# Altium schematic symbol library SCH - MCU - SI LABS - SI LABS EFM32GG11B820F2048GL192 192-PIN BGA 7X7.SchLib: 1 symbol
Pins are listed as number, name and electrical type; pins without a type are passive.

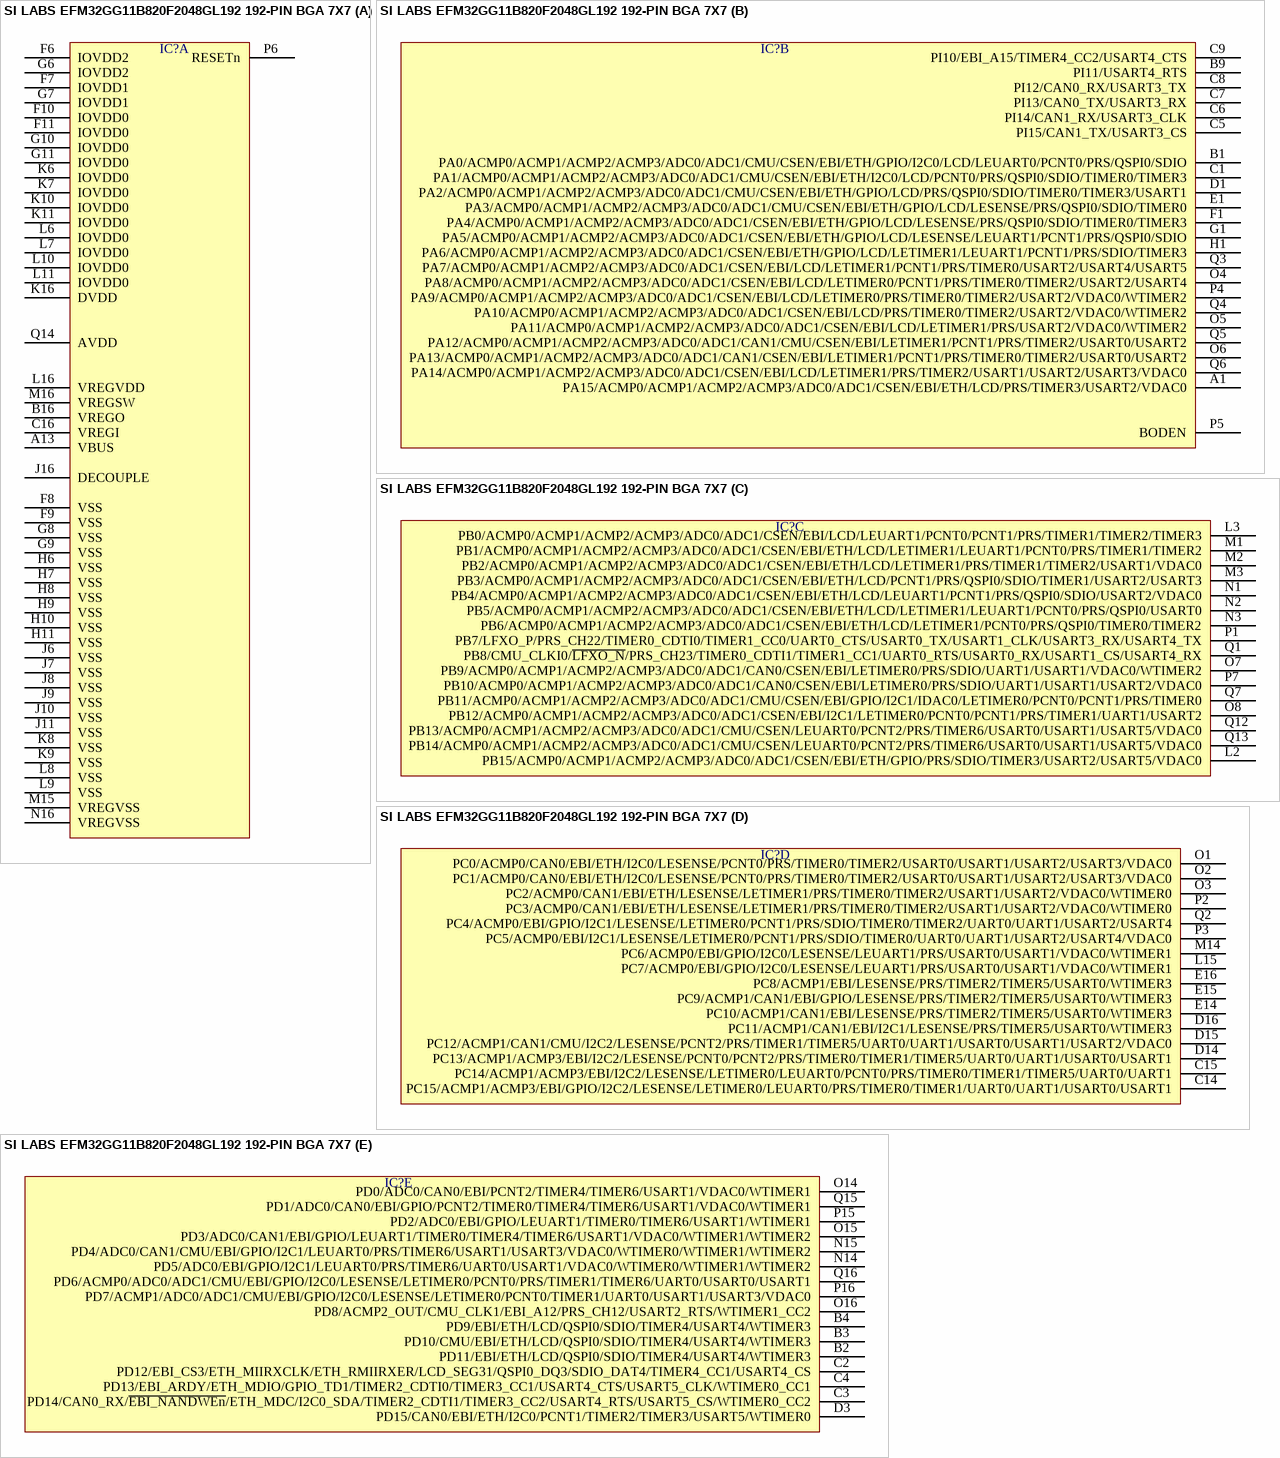
[diagram p0: symbol SI LABS EFM32GG11B820F2048GL192 192-PIN BGA 7X7]

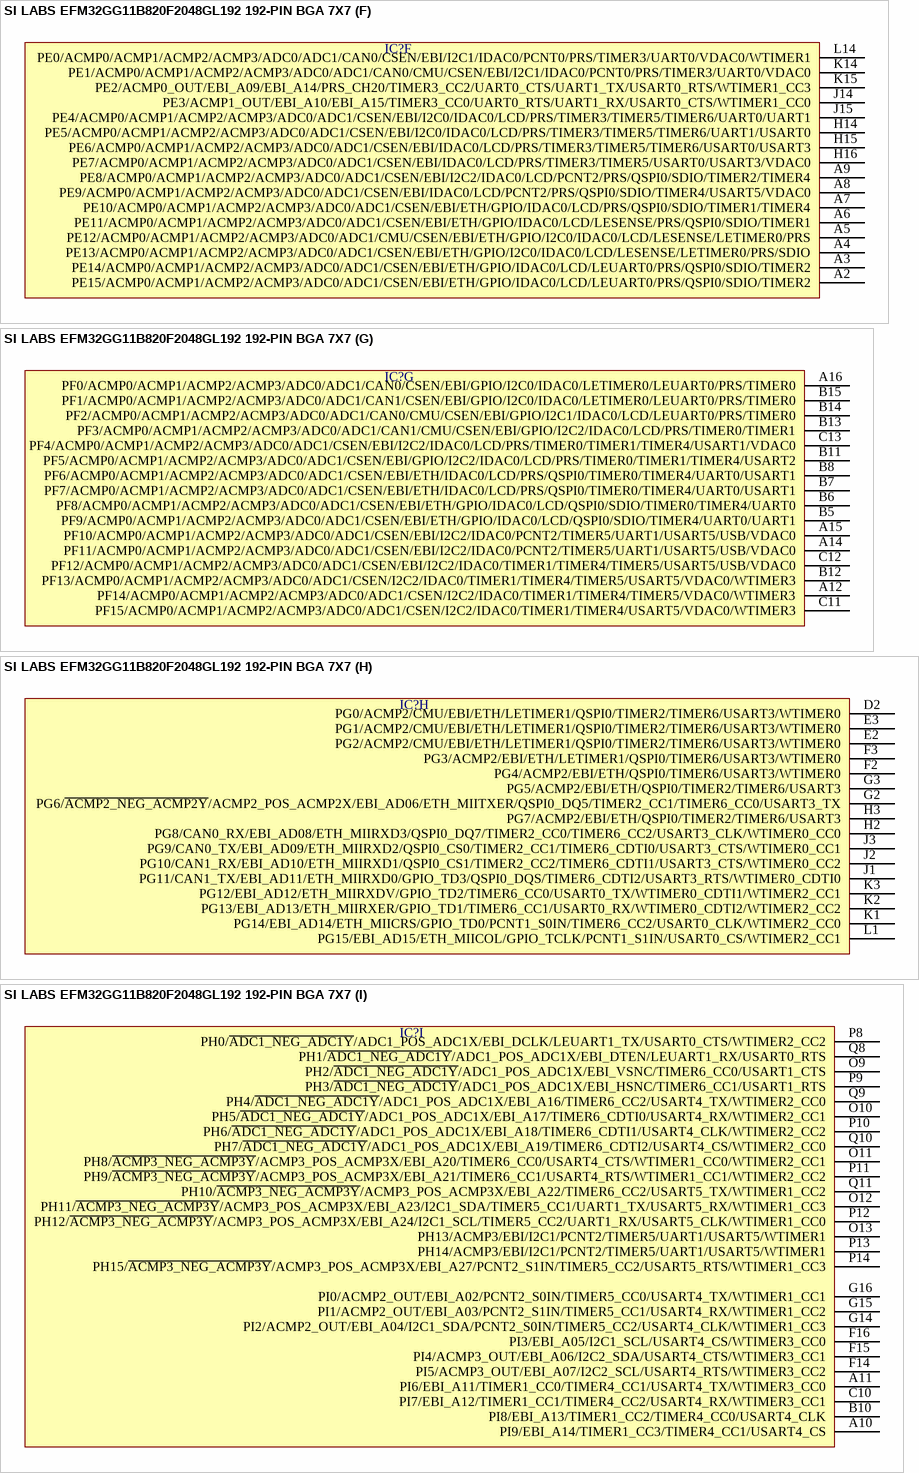
[diagram p1: symbol SI LABS EFM32GG11B820F2048GL192 192-PIN BGA 7X7]

## SI LABS EFM32GG11B820F2048GL192 192-PIN BGA 7X7
designator IC?  (value not drawn)
part A pins: A13 VBUS, B16 VREGO, C16 VREGI, F6 IOVDD2, F7 IOVDD1, F8 VSS, F9 VSS, F10 IOVDD0, F11 IOVDD0, G6 IOVDD2, G7 IOVDD1, G8 VSS, G9 VSS, G10 IOVDD0, G11 IOVDD0, H6 VSS, H7 VSS, H8 VSS, H9 VSS, H10 VSS, H11 VSS, J6 VSS, J7 VSS, J8 VSS, J9 VSS, J10 VSS, J11 VSS, J16 DECOUPLE, K6 IOVDD0, K7 IOVDD0, K8 VSS, K9 VSS, K10 IOVDD0, K11 IOVDD0, K16 DVDD, L6 IOVDD0, L7 IOVDD0, L8 VSS, L9 VSS, L10 IOVDD0, L11 IOVDD0, L16 VREGVDD, M15 VREGVSS, M16 VREGSW, N16 VREGVSS, P6 RESETn, Q14 AVDD
part B pins: A1 PA15/ACMP0/ACMP1/ACMP2/ACMP3/ADC0/ADC1/CSEN/EBI/ETH/LCD/PRS/TIMER3/USART2/VDAC0, B1 PA0/ACMP0/ACMP1/ACMP2/ACMP3/ADC0/ADC1/CMU/CSEN/EBI/ETH/GPIO/I2C0/LCD/LEUART0/PCNT0/PRS/QSPI0/SDIO, B9 PI11/USART4_RTS, C1 PA1/ACMP0/ACMP1/ACMP2/ACMP3/ADC0/ADC1/CMU/CSEN/EBI/ETH/I2C0/LCD/PCNT0/PRS/QSPI0/SDIO/TIMER0/TIMER3, C5 PI15/CAN1_TX/USART3_CS, C6 PI14/CAN1_RX/USART3_CLK, C7 PI13/CAN0_TX/USART3_RX, C8 PI12/CAN0_RX/USART3_TX, C9 PI10/EBI_A15/TIMER4_CC2/USART4_CTS, D1 PA2/ACMP0/ACMP1/ACMP2/ACMP3/ADC0/ADC1/CMU/CSEN/EBI/ETH/GPIO/LCD/PRS/QSPI0/SDIO/TIMER0/TIMER3/USART1, E1 PA3/ACMP0/ACMP1/ACMP2/ACMP3/ADC0/ADC1/CMU/CSEN/EBI/ETH/GPIO/LCD/LESENSE/PRS/QSPI0/SDIO/TIMER0, F1 PA4/ACMP0/ACMP1/ACMP2/ACMP3/ADC0/ADC1/CSEN/EBI/ETH/GPIO/LCD/LESENSE/PRS/QSPI0/SDIO/TIMER0/TIMER3, G1 PA5/ACMP0/ACMP1/ACMP2/ACMP3/ADC0/ADC1/CSEN/EBI/ETH/GPIO/LCD/LESENSE/LEUART1/PCNT1/PRS/QSPI0/SDIO, H1 PA6/ACMP0/ACMP1/ACMP2/ACMP3/ADC0/ADC1/CSEN/EBI/ETH/GPIO/LCD/LETIMER1/LEUART1/PCNT1/PRS/SDIO/TIMER3, O4 PA8/ACMP0/ACMP1/ACMP2/ACMP3/ADC0/ADC1/CSEN/EBI/LCD/LETIMER0/PCNT1/PRS/TIMER0/TIMER2/USART2/USART4, O5 PA11/ACMP0/ACMP1/ACMP2/ACMP3/ADC0/ADC1/CSEN/EBI/LCD/LETIMER1/PRS/USART2/VDAC0/WTIMER2, O6 PA13/ACMP0/ACMP1/ACMP2/ACMP3/ADC0/ADC1/CAN1/CSEN/EBI/LETIMER1/PCNT1/PRS/TIMER0/TIMER2/USART0/USART2, P4 PA9/ACMP0/ACMP1/ACMP2/ACMP3/ADC0/ADC1/CSEN/EBI/LCD/LETIMER0/PRS/TIMER0/TIMER2/USART2/VDAC0/WTIMER2, P5 BODEN, Q3 PA7/ACMP0/ACMP1/ACMP2/ACMP3/ADC0/ADC1/CSEN/EBI/LCD/LETIMER1/PCNT1/PRS/TIMER0/USART2/USART4/USART5, Q4 PA10/ACMP0/ACMP1/ACMP2/ACMP3/ADC0/ADC1/CSEN/EBI/LCD/PRS/TIMER0/TIMER2/USART2/VDAC0/WTIMER2, Q5 PA12/ACMP0/ACMP1/ACMP2/ACMP3/ADC0/ADC1/CAN1/CMU/CSEN/EBI/LETIMER1/PCNT1/PRS/TIMER2/USART0/USART2, Q6 PA14/ACMP0/ACMP1/ACMP2/ACMP3/ADC0/ADC1/CSEN/EBI/LCD/LETIMER1/PRS/TIMER2/USART1/USART2/USART3/VDAC0
part C pins: L2 PB15/ACMP0/ACMP1/ACMP2/ACMP3/ADC0/ADC1/CSEN/EBI/ETH/GPIO/PRS/SDIO/TIMER3/USART2/USART5/VDAC0, L3 PB0/ACMP0/ACMP1/ACMP2/ACMP3/ADC0/ADC1/CSEN/EBI/LCD/LEUART1/PCNT0/PCNT1/PRS/TIMER1/TIMER2/TIMER3, M1 PB1/ACMP0/ACMP1/ACMP2/ACMP3/ADC0/ADC1/CSEN/EBI/ETH/LCD/LETIMER1/LEUART1/PCNT0/PRS/TIMER1/TIMER2, M2 PB2/ACMP0/ACMP1/ACMP2/ACMP3/ADC0/ADC1/CSEN/EBI/ETH/LCD/LETIMER1/PRS/TIMER1/TIMER2/USART1/VDAC0, M3 PB3/ACMP0/ACMP1/ACMP2/ACMP3/ADC0/ADC1/CSEN/EBI/ETH/LCD/PCNT1/PRS/QSPI0/SDIO/TIMER1/USART2/USART3, N1 PB4/ACMP0/ACMP1/ACMP2/ACMP3/ADC0/ADC1/CSEN/EBI/ETH/LCD/LEUART1/PCNT1/PRS/QSPI0/SDIO/USART2/VDAC0, N2 PB5/ACMP0/ACMP1/ACMP2/ACMP3/ADC0/ADC1/CSEN/EBI/ETH/LCD/LETIMER1/LEUART1/PCNT0/PRS/QSPI0/USART0, N3 PB6/ACMP0/ACMP1/ACMP2/ACMP3/ADC0/ADC1/CSEN/EBI/ETH/LCD/LETIMER1/PCNT0/PRS/QSPI0/TIMER0/TIMER2, O7 PB9/ACMP0/ACMP1/ACMP2/ACMP3/ADC0/ADC1/CAN0/CSEN/EBI/LETIMER0/PRS/SDIO/UART1/USART1/VDAC0/WTIMER2, O8 PB12/ACMP0/ACMP1/ACMP2/ACMP3/ADC0/ADC1/CSEN/EBI/I2C1/LETIMER0/PCNT0/PCNT1/PRS/TIMER1/UART1/USART2, P1 PB7/LFXO_P/PRS_CH22/TIMER0_CDTI0/TIMER1_CC0/UART0_CTS/USART0_TX/USART1_CLK/USART3_RX/USART4_TX, P7 PB10/ACMP0/ACMP1/ACMP2/ACMP3/ADC0/ADC1/CAN0/CSEN/EBI/LETIMER0/PRS/SDIO/UART1/USART1/USART2/VDAC0, Q1 PB8/CMU_CLKI0/~{LFXO_N}/PRS_CH23/TIMER0_CDTI1/TIMER1_CC1/UART0_RTS/USART0_RX/USART1_CS/USART4_RX, Q7 PB11/ACMP0/ACMP1/ACMP2/ACMP3/ADC0/ADC1/CMU/CSEN/EBI/GPIO/I2C1/IDAC0/LETIMER0/PCNT0/PCNT1/PRS/TIMER0, Q12 PB13/ACMP0/ACMP1/ACMP2/ACMP3/ADC0/ADC1/CMU/CSEN/LEUART0/PCNT2/PRS/TIMER6/USART0/USART1/USART5/VDAC0, Q13 PB14/ACMP0/ACMP1/ACMP2/ACMP3/ADC0/ADC1/CMU/CSEN/LEUART0/PCNT2/PRS/TIMER6/USART0/USART1/USART5/VDAC0
part D pins: C14 PC15/ACMP1/ACMP3/EBI/GPIO/I2C2/LESENSE/LETIMER0/LEUART0/PRS/TIMER0/TIMER1/UART0/UART1/USART0/USART1, C15 PC14/ACMP1/ACMP3/EBI/I2C2/LESENSE/LETIMER0/LEUART0/PCNT0/PRS/TIMER0/TIMER1/TIMER5/UART0/UART1, D14 PC13/ACMP1/ACMP3/EBI/I2C2/LESENSE/PCNT0/PCNT2/PRS/TIMER0/TIMER1/TIMER5/UART0/UART1/USART0/USART1, D15 PC12/ACMP1/CAN1/CMU/I2C2/LESENSE/PCNT2/PRS/TIMER1/TIMER5/UART0/UART1/USART0/USART1/USART2/VDAC0, D16 PC11/ACMP1/CAN1/EBI/I2C1/LESENSE/PRS/TIMER5/USART0/WTIMER3, E14 PC10/ACMP1/CAN1/EBI/LESENSE/PRS/TIMER2/TIMER5/USART0/WTIMER3, E15 PC9/ACMP1/CAN1/EBI/GPIO/LESENSE/PRS/TIMER2/TIMER5/USART0/WTIMER3, E16 PC8/ACMP1/EBI/LESENSE/PRS/TIMER2/TIMER5/USART0/WTIMER3, L15 PC7/ACMP0/EBI/GPIO/I2C0/LESENSE/LEUART1/PRS/USART0/USART1/VDAC0/WTIMER1, M14 PC6/ACMP0/EBI/GPIO/I2C0/LESENSE/LEUART1/PRS/USART0/USART1/VDAC0/WTIMER1, O1 PC0/ACMP0/CAN0/EBI/ETH/I2C0/LESENSE/PCNT0/PRS/TIMER0/TIMER2/USART0/USART1/USART2/USART3/VDAC0, O2 PC1/ACMP0/CAN0/EBI/ETH/I2C0/LESENSE/PCNT0/PRS/TIMER0/TIMER2/USART0/USART1/USART2/USART3/VDAC0, O3 PC2/ACMP0/CAN1/EBI/ETH/LESENSE/LETIMER1/PRS/TIMER0/TIMER2/USART1/USART2/VDAC0/WTIMER0, P2 PC3/ACMP0/CAN1/EBI/ETH/LESENSE/LETIMER1/PRS/TIMER0/TIMER2/USART1/USART2/VDAC0/WTIMER0, P3 PC5/ACMP0/EBI/I2C1/LESENSE/LETIMER0/PCNT1/PRS/SDIO/TIMER0/UART0/UART1/USART2/USART4/VDAC0, Q2 PC4/ACMP0/EBI/GPIO/I2C1/LESENSE/LETIMER0/PCNT1/PRS/SDIO/TIMER0/TIMER2/UART0/UART1/USART2/USART4
part E pins: B2 PD11/EBI/ETH/LCD/QSPI0/SDIO/TIMER4/USART4/WTIMER3, B3 PD10/CMU/EBI/ETH/LCD/QSPI0/SDIO/TIMER4/USART4/WTIMER3, B4 PD9/EBI/ETH/LCD/QSPI0/SDIO/TIMER4/USART4/WTIMER3, C2 PD12/EBI_CS3/ETH_MIIRXCLK/ETH_RMIIRXER/LCD_SEG31/QSPI0_DQ3/SDIO_DAT4/TIMER4_CC1/USART4_CS, C3 PD14/CAN0_RX/~{EBI_NANDWEn}/ETH_MDC/I2C0_SDA/TIMER2_CDTI1/TIMER3_CC2/USART4_RTS/USART5_CS/WTIMER0_CC2, C4 PD13/EBI_ARDY/ETH_MDIO/GPIO_TD1/TIMER2_CDTI0/TIMER3_CC1/USART4_CTS/USART5_CLK/WTIMER0_CC1, D3 PD15/CAN0/EBI/ETH/I2C0/PCNT1/TIMER2/TIMER3/USART5/WTIMER0, N14 PD5/ADC0/EBI/GPIO/I2C1/LEUART0/PRS/TIMER6/UART0/USART1/VDAC0/WTIMER0/WTIMER1/WTIMER2, N15 PD4/ADC0/CAN1/CMU/EBI/GPIO/I2C1/LEUART0/PRS/TIMER6/USART1/USART3/VDAC0/WTIMER0/WTIMER1/WTIMER2, O14 PD0/ADC0/CAN0/EBI/PCNT2/TIMER4/TIMER6/USART1/VDAC0/WTIMER1, O15 PD3/ADC0/CAN1/EBI/GPIO/LEUART1/TIMER0/TIMER4/TIMER6/USART1/VDAC0/WTIMER1/WTIMER2, O16 PD8/ACMP2_OUT/CMU_CLK1/EBI_A12/PRS_CH12/USART2_RTS/WTIMER1_CC2, P15 PD2/ADC0/EBI/GPIO/LEUART1/TIMER0/TIMER6/USART1/WTIMER1, P16 PD7/ACMP1/ADC0/ADC1/CMU/EBI/GPIO/I2C0/LESENSE/LETIMER0/PCNT0/TIMER1/UART0/USART1/USART3/VDAC0, Q15 PD1/ADC0/CAN0/EBI/GPIO/PCNT2/TIMER0/TIMER4/TIMER6/USART1/VDAC0/WTIMER1, Q16 PD6/ACMP0/ADC0/ADC1/CMU/EBI/GPIO/I2C0/LESENSE/LETIMER0/PCNT0/PRS/TIMER1/TIMER6/UART0/USART0/USART1
part F pins: A2 PE15/ACMP0/ACMP1/ACMP2/ACMP3/ADC0/ADC1/CSEN/EBI/ETH/GPIO/IDAC0/LCD/LEUART0/PRS/QSPI0/SDIO/TIMER2, A3 PE14/ACMP0/ACMP1/ACMP2/ACMP3/ADC0/ADC1/CSEN/EBI/ETH/GPIO/IDAC0/LCD/LEUART0/PRS/QSPI0/SDIO/TIMER2, A4 PE13/ACMP0/ACMP1/ACMP2/ACMP3/ADC0/ADC1/CSEN/EBI/ETH/GPIO/I2C0/IDAC0/LCD/LESENSE/LETIMER0/PRS/SDIO, A5 PE12/ACMP0/ACMP1/ACMP2/ACMP3/ADC0/ADC1/CMU/CSEN/EBI/ETH/GPIO/I2C0/IDAC0/LCD/LESENSE/LETIMER0/PRS, A6 PE11/ACMP0/ACMP1/ACMP2/ACMP3/ADC0/ADC1/CSEN/EBI/ETH/GPIO/IDAC0/LCD/LESENSE/PRS/QSPI0/SDIO/TIMER1, A7 PE10/ACMP0/ACMP1/ACMP2/ACMP3/ADC0/ADC1/CSEN/EBI/ETH/GPIO/IDAC0/LCD/PRS/QSPI0/SDIO/TIMER1/TIMER4, A8 PE9/ACMP0/ACMP1/ACMP2/ACMP3/ADC0/ADC1/CSEN/EBI/IDAC0/LCD/PCNT2/PRS/QSPI0/SDIO/TIMER4/USART5/VDAC0, A9 PE8/ACMP0/ACMP1/ACMP2/ACMP3/ADC0/ADC1/CSEN/EBI/I2C2/IDAC0/LCD/PCNT2/PRS/QSPI0/SDIO/TIMER2/TIMER4, H14 PE5/ACMP0/ACMP1/ACMP2/ACMP3/ADC0/ADC1/CSEN/EBI/I2C0/IDAC0/LCD/PRS/TIMER3/TIMER5/TIMER6/UART1/USART0, H15 PE6/ACMP0/ACMP1/ACMP2/ACMP3/ADC0/ADC1/CSEN/EBI/IDAC0/LCD/PRS/TIMER3/TIMER5/TIMER6/USART0/USART3, H16 PE7/ACMP0/ACMP1/ACMP2/ACMP3/ADC0/ADC1/CSEN/EBI/IDAC0/LCD/PRS/TIMER3/TIMER5/USART0/USART3/VDAC0, J14 PE3/ACMP1_OUT/EBI_A10/EBI_A15/TIMER3_CC0/UART0_RTS/UART1_RX/USART0_CTS/WTIMER1_CC0, J15 PE4/ACMP0/ACMP1/ACMP2/ACMP3/ADC0/ADC1/CSEN/EBI/I2C0/IDAC0/LCD/PRS/TIMER3/TIMER5/TIMER6/UART0/UART1, K14 PE1/ACMP0/ACMP1/ACMP2/ACMP3/ADC0/ADC1/CAN0/CMU/CSEN/EBI/I2C1/IDAC0/PCNT0/PRS/TIMER3/UART0/VDAC0, K15 PE2/ACMP0_OUT/EBI_A09/EBI_A14/PRS_CH20/TIMER3_CC2/UART0_CTS/UART1_TX/USART0_RTS/WTIMER1_CC3, L14 PE0/ACMP0/ACMP1/ACMP2/ACMP3/ADC0/ADC1/CAN0/CSEN/EBI/I2C1/IDAC0/PCNT0/PRS/TIMER3/UART0/VDAC0/WTIMER1
part G pins: A12 PF14/ACMP0/ACMP1/ACMP2/ACMP3/ADC0/ADC1/CSEN/I2C2/IDAC0/TIMER1/TIMER4/TIMER5/VDAC0/WTIMER3, A14 PF11/ACMP0/ACMP1/ACMP2/ACMP3/ADC0/ADC1/CSEN/EBI/I2C2/IDAC0/PCNT2/TIMER5/UART1/USART5/USB/VDAC0, A15 PF10/ACMP0/ACMP1/ACMP2/ACMP3/ADC0/ADC1/CSEN/EBI/I2C2/IDAC0/PCNT2/TIMER5/UART1/USART5/USB/VDAC0, A16 PF0/ACMP0/ACMP1/ACMP2/ACMP3/ADC0/ADC1/CAN0/CSEN/EBI/GPIO/I2C0/IDAC0/LETIMER0/LEUART0/PRS/TIMER0, B5 PF9/ACMP0/ACMP1/ACMP2/ACMP3/ADC0/ADC1/CSEN/EBI/ETH/GPIO/IDAC0/LCD/QSPI0/SDIO/TIMER4/UART0/UART1, B6 PF8/ACMP0/ACMP1/ACMP2/ACMP3/ADC0/ADC1/CSEN/EBI/ETH/GPIO/IDAC0/LCD/QSPI0/SDIO/TIMER0/TIMER4/UART0, B7 PF7/ACMP0/ACMP1/ACMP2/ACMP3/ADC0/ADC1/CSEN/EBI/ETH/IDAC0/LCD/PRS/QSPI0/TIMER0/TIMER4/UART0/USART1, B8 PF6/ACMP0/ACMP1/ACMP2/ACMP3/ADC0/ADC1/CSEN/EBI/ETH/IDAC0/LCD/PRS/QSPI0/TIMER0/TIMER4/UART0/USART1, B11 PF5/ACMP0/ACMP1/ACMP2/ACMP3/ADC0/ADC1/CSEN/EBI/GPIO/I2C2/IDAC0/LCD/PRS/TIMER0/TIMER1/TIMER4/USART2, B12 PF13/ACMP0/ACMP1/ACMP2/ACMP3/ADC0/ADC1/CSEN/I2C2/IDAC0/TIMER1/TIMER4/TIMER5/USART5/VDAC0/WTIMER3, B13 PF3/ACMP0/ACMP1/ACMP2/ACMP3/ADC0/ADC1/CAN1/CMU/CSEN/EBI/GPIO/I2C2/IDAC0/LCD/PRS/TIMER0/TIMER1, B14 PF2/ACMP0/ACMP1/ACMP2/ACMP3/ADC0/ADC1/CAN0/CMU/CSEN/EBI/GPIO/I2C1/IDAC0/LCD/LEUART0/PRS/TIMER0, B15 PF1/ACMP0/ACMP1/ACMP2/ACMP3/ADC0/ADC1/CAN1/CSEN/EBI/GPIO/I2C0/IDAC0/LETIMER0/LEUART0/PRS/TIMER0, C11 PF15/ACMP0/ACMP1/ACMP2/ACMP3/ADC0/ADC1/CSEN/I2C2/IDAC0/TIMER1/TIMER4/USART5/VDAC0/WTIMER3, C12 PF12/ACMP0/ACMP1/ACMP2/ACMP3/ADC0/ADC1/CSEN/EBI/I2C2/IDAC0/TIMER1/TIMER4/TIMER5/USART5/USB/VDAC0, C13 PF4/ACMP0/ACMP1/ACMP2/ACMP3/ADC0/ADC1/CSEN/EBI/I2C2/IDAC0/LCD/PRS/TIMER0/TIMER1/TIMER4/USART1/VDAC0
part H pins: D2 PG0/ACMP2/CMU/EBI/ETH/LETIMER1/QSPI0/TIMER2/TIMER6/USART3/WTIMER0, E2 PG2/ACMP2/CMU/EBI/ETH/LETIMER1/QSPI0/TIMER2/TIMER6/USART3/WTIMER0, E3 PG1/ACMP2/CMU/EBI/ETH/LETIMER1/QSPI0/TIMER2/TIMER6/USART3/WTIMER0, F2 PG4/ACMP2/EBI/ETH/QSPI0/TIMER6/USART3/WTIMER0, F3 PG3/ACMP2/EBI/ETH/LETIMER1/QSPI0/TIMER6/USART3/WTIMER0, G2 PG6/~{ACMP2_NEG_ACMP2Y}/ACMP2_POS_ACMP2X/EBI_AD06/ETH_MIITXER/QSPI0_DQ5/TIMER2_CC1/TIMER6_CC0/USART3_TX, G3 PG5/ACMP2/EBI/ETH/QSPI0/TIMER2/TIMER6/USART3, H2 PG8/CAN0_RX/EBI_AD08/ETH_MIIRXD3/QSPI0_DQ7/TIMER2_CC0/TIMER6_CC2/USART3_CLK/WTIMER0_CC0, H3 PG7/ACMP2/EBI/ETH/QSPI0/TIMER2/TIMER6/USART3, J1 PG11/CAN1_TX/EBI_AD11/ETH_MIIRXD0/GPIO_TD3/QSPI0_DQS/TIMER6_CDTI2/USART3_RTS/WTIMER0_CDTI0, J2 PG10/CAN1_RX/EBI_AD10/ETH_MIIRXD1/QSPI0_CS1/TIMER2_CC2/TIMER6_CDTI1/USART3_CTS/WTIMER0_CC2, J3 PG9/CAN0_TX/EBI_AD09/ETH_MIIRXD2/QSPI0_CS0/TIMER2_CC1/TIMER6_CDTI0/USART3_CTS/WTIMER0_CC1, K1 PG14/EBI_AD14/ETH_MIICRS/GPIO_TD0/PCNT1_S0IN/TIMER6_CC2/USART0_CLK/WTIMER2_CC0, K2 PG13/EBI_AD13/ETH_MIIRXER/GPIO_TD1/TIMER6_CC1/USART0_RX/WTIMER0_CDTI2/WTIMER2_CC2, K3 PG12/EBI_AD12/ETH_MIIRXDV/GPIO_TD2/TIMER6_CC0/USART0_TX/WTIMER0_CDTI1/WTIMER2_CC1, L1 PG15/EBI_AD15/ETH_MIICOL/GPIO_TCLK/PCNT1_S1IN/USART0_CS/WTIMER2_CC1
part I pins: A10 PI9/EBI_A14/TIMER1_CC3/TIMER4_CC1/USART4_CS, A11 PI6/EBI_A11/TIMER1_CC0/TIMER4_CC1/USART4_TX/WTIMER3_CC0, B10 PI8/EBI_A13/TIMER1_CC2/TIMER4_CC0/USART4_CLK, C10 PI7/EBI_A12/TIMER1_CC1/TIMER4_CC2/USART4_RX/WTIMER3_CC1, F14 PI5/ACMP3_OUT/EBI_A07/I2C2_SCL/USART4_RTS/WTIMER3_CC2, F15 PI4/ACMP3_OUT/EBI_A06/I2C2_SDA/USART4_CTS/WTIMER3_CC1, F16 PI3/EBI_A05/I2C1_SCL/USART4_CS/WTIMER3_CC0, G14 PI2/ACMP2_OUT/EBI_A04/I2C1_SDA/PCNT2_S0IN/TIMER5_CC2/USART4_CLK/WTIMER1_CC3, G15 PI1/ACMP2_OUT/EBI_A03/PCNT2_S1IN/TIMER5_CC1/USART4_RX/WTIMER1_CC2, G16 PI0/ACMP2_OUT/EBI_A02/PCNT2_S0IN/TIMER5_CC0/USART4_TX/WTIMER1_CC1, O9 PH2/~{ADC1_NEG_ADC1Y}/ADC1_POS_ADC1X/EBI_VSNC/TIMER6_CC0/USART1_CTS, O10 PH5/~{ADC1_NEG_ADC1Y}/ADC1_POS_ADC1X/EBI_A17/TIMER6_CDTI0/USART4_RX/WTIMER2_CC1, O11 PH8/~{ACMP3_NEG_ACMP3Y}/ACMP3_POS_ACMP3X/EBI_A20/TIMER6_CC0/USART4_CTS/WTIMER1_CC0/WTIMER2_CC1, O12 PH11/~{ACMP3_NEG_ACMP3Y}/ACMP3_POS_ACMP3X/EBI_A23/I2C1_SDA/TIMER5_CC1/UART1_TX/USART5_RX/WTIMER1_CC3, O13 PH13/ACMP3/EBI/I2C1/PCNT2/TIMER5/UART1/USART5/WTIMER1, P8 PH0/~{ADC1_NEG_ADC1Y}/ADC1_POS_ADC1X/EBI_DCLK/LEUART1_TX/USART0_CTS/WTIMER2_CC2, P9 PH3/~{ADC1_NEG_ADC1Y}/ADC1_POS_ADC1X/EBI_HSNC/TIMER6_CC1/USART1_RTS, P10 PH6/~{ADC1_NEG_ADC1Y}/ADC1_POS_ADC1X/EBI_A18/TIMER6_CDTI1/USART4_CLK/WTIMER2_CC2, P11 PH9/~{ACMP3_NEG_ACMP3Y}/ACMP3_POS_ACMP3X/EBI_A21/TIMER6_CC1/USART4_RTS/WTIMER1_CC1/WTIMER2_CC2, P12 PH12/~{ACMP3_NEG_ACMP3Y}/ACMP3_POS_ACMP3X/EBI_A24/I2C1_SCL/TIMER5_CC2/UART1_RX/USART5_CLK/WTIMER1_CC0, P13 PH14/ACMP3/EBI/I2C1/PCNT2/TIMER5/UART1/USART5/WTIMER1, P14 PH15/~{ACMP3_NEG_ACMP3Y}/ACMP3_POS_ACMP3X/EBI_A27/PCNT2_S1IN/TIMER5_CC2/USART5_RTS/WTIMER1_CC3, Q8 PH1/~{ADC1_NEG_ADC1Y}/ADC1_POS_ADC1X/EBI_DTEN/LEUART1_RX/USART0_RTS, Q9 PH4/~{ADC1_NEG_ADC1Y}/ADC1_POS_ADC1X/EBI_A16/TIMER6_CC2/USART4_TX/WTIMER2_CC0, Q10 PH7/~{ADC1_NEG_ADC1Y}/ADC1_POS_ADC1X/EBI_A19/TIMER6_CDTI2/USART4_CS/WTIMER2_CC0, Q11 PH10/~{ACMP3_NEG_ACMP3Y}/ACMP3_POS_ACMP3X/EBI_A22/TIMER6_CC2/USART5_TX/WTIMER1_CC2